# Altium schematic symbol library Vowstar_Switch.SchLib: 15 symbols
Pins are listed as number, name and electrical type; pins without a type are passive.

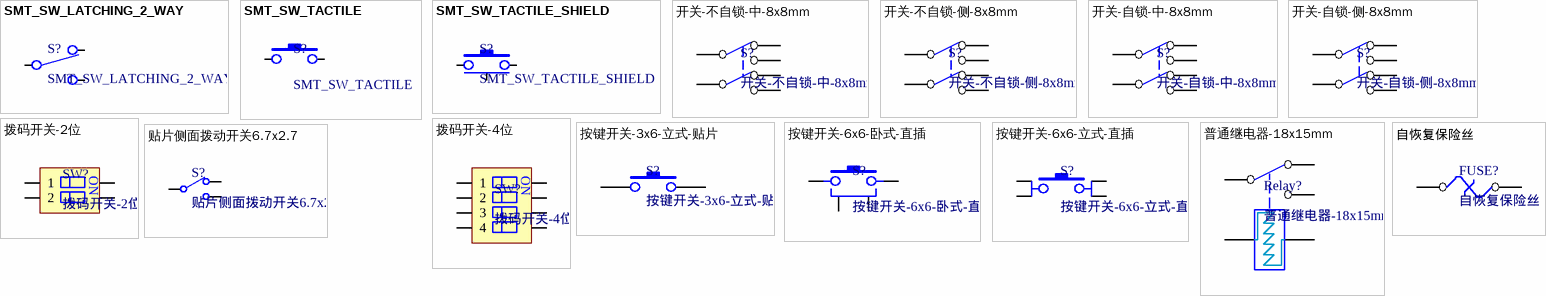
[diagram p0: symbols SMT_SW_LATCHING_2_WAY to 贴片侧面拨动开关6.7x2.7]

## SMT_SW_LATCHING_2_WAY
designator S?
Generic SMT Latching Switch With 2 ways
footprint SMT_SW_SPEF210101 (ALPS Switch 1.5mm-travel Vertical Type SPEF Series SPEF210101)
pins: 1 "Switch pin 1", 2 "Switch pin 2", C "Switch Common pin"

## SMT_SW_TACTILE
designator S?
Generic SMT Tactile Switch
footprint SMT_SW_PTS_820 (SMT Tactile Switch PTS 820 Series)
footprint SMT_SW_TSA343G00-250J2 (SMT Tactile Switch TSA343G00D-250J2 Series With no hole)
footprint SMT_SW_TSA343G00D-250J2 (SMT Tactile Switch TSA343G00D-250J2 Series With hole)
footprint SMT_SW_TS_1186D_C_A (SMT Side tap switch XKB TS-1186D-C-A W4.7xD3.5xH1.65)
pins: 1 "Switch pin 1", 2 "Switch pin 2"

## SMT_SW_TACTILE_SHIELD
designator S?
Generic SMT Tactile Switch With Shield
footprint SMT_SW_PTS_820 (SMT Tactile Switch PTS 820 Series)
pins: 1 "Switch pin 1", 2 "Switch pin 2", S "Shield to ground"

## 开关-不自锁-中-8x8mm
designator S?
footprint 开关-不自锁-中-8x8mm
pins: 1, 2, 3, 4, 5, 6

## 开关-不自锁-侧-8x8mm
designator S?
footprint 开关-不自锁-侧-8x8mm
pins: 1, 2, 3, 4, 5, 6

## 开关-自锁-中-8x8mm
designator S?
footprint 开关-自锁-中-8x8mm
pins: 1, 2, 3, 4, 5, 6

## 开关-自锁-侧-8x8mm
designator S?
footprint 开关-自锁-侧-8x8mm
pins: 1, 2, 3, 4, 5, 6

## 拨码开关-2位
designator SW?
footprint 拨码开关-2位-2.54mm-直插
pins: 1, 2, 3, 4
text: ON

## 拨码开关-4位
designator SW?
footprint 拨码开关-4位-2.54mm-贴片
pins: 1, 2, 3, 4, 5, 6, 7, 8
text: ON

## 按键开关-3x6-立式-贴片
designator S?
footprint 按键开关-3x6-立式-贴片
pins: 1, 2

## 按键开关-6x6-卧式-直插
designator S?
footprint 按键开关-6x6-卧式-直插
pins: 1 PIN1, 2 PIN2, 3, 4

## 按键开关-6x6-立式-直插
designator S?
footprint 按键开关-6x6-立式-直插
pins: 1 PINA1, 2 PINA2, 3 PINB1, 4 PINB2

## 普通继电器-18x15mm
designator Relay?
pins: 1, 2, 3, 4, 5

## 自恢复保险丝
designator FUSE?
footprint 自恢复保险丝
pins: 1, 2

## 贴片侧面拨动开关6.7x2.7
designator S?
footprint 贴片侧面拨动开关6.7x2.7 (贴片侧面拨动开关)
pins: 1, 2, 3